# Altium integrated library Symbols.IntLib: 2 symbols
Pins are listed as number, name and electrical type; pins without a type are passive.

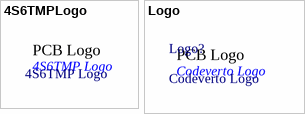
[diagram p0: symbols 4S6TMPLogo to Logo]

## 4S6TMPLogo
designator Logo?, comment 4S6TMP Logo  (no BOM)
footprint 4S6TMP Logo - Top
footprint Codeverto Logo (Codeverto Logo Mono)
footprint 4S6TMP Logo-Bottom
text: PCB Logo

## Logo
designator Logo?, comment Codeverto Logo
footprint Codeverto Logo (Codeverto Logo Mono)
text: PCB Logo